# Altium schematic symbol library MACHXO3_STARTER KIT_22SEP14_Library.SchLib: 38 symbols
Pins are listed as number, name and electrical type; pins without a type are passive.

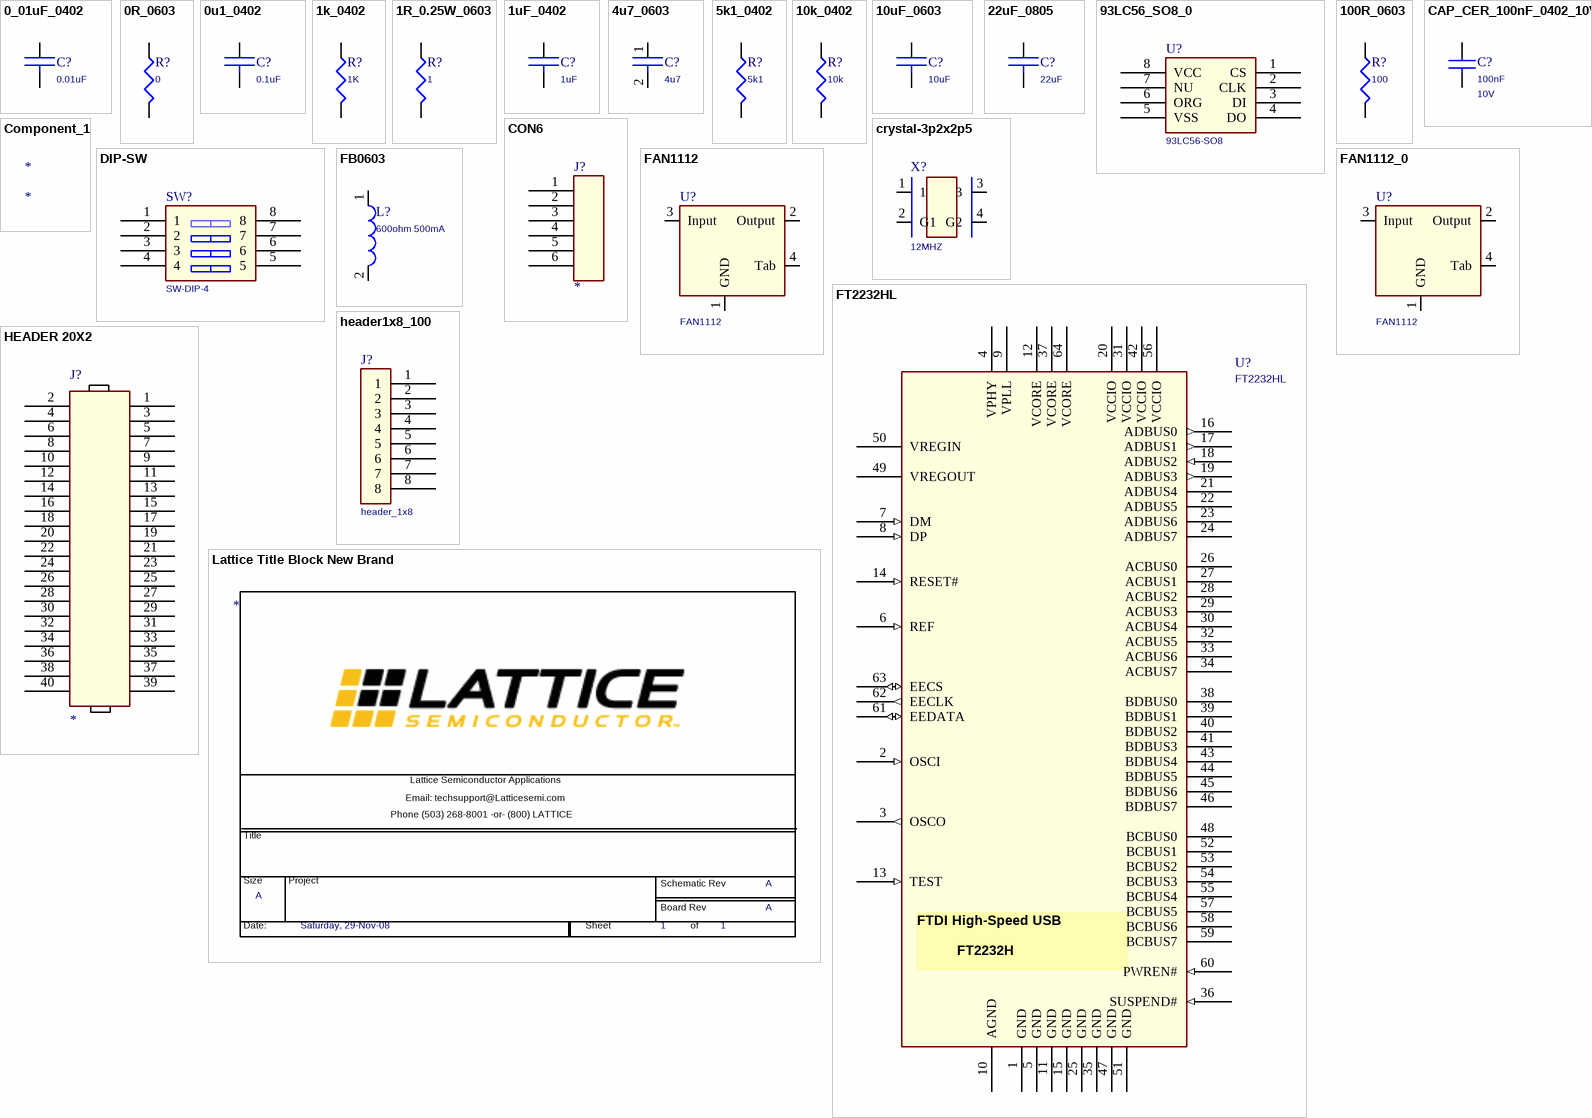
[diagram p0: symbols 0_01uF_0402 to Lattice Title Block New Brand]

## 0_01uF_0402
designator C?, comment 0.01uF
CAP CERAMIC 10nF 16V 5% X7R 0402; Manufacturer Part Number: C0402C103J4RACTU; Manufacturer: Kemet; Class: Discrete; Digikey P/N: 399-1039-1-ND
footprint cc0402
pins: 1, 2

## 0R_0603
designator R?, comment 0
Res 1/10W 0.0 Ohm 5% 0603; Manufacturer Part Number: RC0603JR-070RL; Manufacturer: Yageo; Class: Discrete; Digikey P/N: 311-0.0GRTR-ND
footprint cr0603
pins: 1, 2

## 0u1_0402
designator C?, comment 0.1uF
CAP CERAMIC 0.1UF 16V X7R 0402; Manufacturer Part Number: C0402C104K4RACTU; Manufacturer: Kemet; Class: Discrete; Digikey P/N: 399-3521-2-ND
footprint cc0402
pins: 1, 2

## 1k_0402
designator R?, comment 1K
Res 1/16W 1.0K 1% 0402; Manufacturer: Yageo; Manufacturer Part Number: RC0402FR-071KL; Class: Discrete; Digikey P/N: 311-1.00KLRCT-ND
footprint cr0402
pins: 1 (power), 2 (power)

## 1R_0.25W_0603
designator R?, comment 1
RES 1.0 OHM .25W 5% 0603 SMD; Manufacturer Part Number: CRCW06031R00JNEAHP; Manufacturer: Vishay/Dale; Class: Discrete; Digikey P/N: 541-1.0SACT-ND
footprint cr0603
pins: 1, 2

## 1uF_0402
designator C?, comment 1uF
CAP CERAMIC 1uF 6.3V X5R 0402; Manufacturer Part Number: C0402C105K9PACTU; Manufacturer: Kemet; Class: Discrete; Digikey P/N: 399-4873-1-ND
footprint cc0402
pins: 1, 2

## 4u7_0603
designator C?, comment 4u7
Cap Cer 4.7uF 6.3V 10% X5R 0603; Manufacturer: Panasonic; Part Number: 102033; Manufacturer Part Number: ECJ-1VB0J475K; Class: Discrete; Tolerance: 5%; Digikey SN: PCC2006TR-ND; Voltage: 6.3V
footprint cc0603
pins: 1, 2

## 5k1_0402
designator R?, comment 5k1
Res 1/16W 5.1K 1% 0402; Manufacturer: Yageo; Manufacturer Part Number: RC0402FR-075K1L; Class: Discrete; Digikey P/N: 311-5.10KLRTR-ND
footprint cr0402
pins: 1, 2

## 10k_0402
designator R?, comment 10k
Res 1/16W 10.0K 1% 0402; Manufacturer Part Number: RC0402FR-0710KL; Manufacturer: Yageo; Class: Discrete; Digikey P/N: 311-10.0KLRTR-ND
footprint cr0402
pins: 1, 2

## 10uF_0603
designator C?, comment 10uF
CAP CECAP CER 10UF 10V X5R 20% 0603; Manufacturer Part Number: LMK107BJ106MALTD; Manufacturer: Taiyo Yuden; Class: Discrete; Digikey P/N: 587-2562-1-ND
footprint cc0603
pins: 1, 2

## 22uF_0805
designator C?, comment 22uF
CAP CERAMIC 22uF 10V X5R 0805; Manufacturer Part Number: LMK212BJ226MG-T; Manufacturer: Taiyo Yuden; Class: Discrete; Digikey P/N: 587-1958-1-ND
footprint cc0805
pins: 1, 2

## 93LC56_SO8_0
designator U?, comment 93LC56-SO8
IC 93LC56 EEPROM; Manufacturer Part Number: 93LC56C-I/SN; Manufacturer: Microchip; Class: IC; Digikey P/N: 93LC56C-I/SN-ND
footprint so8_50_244
pins: 1 CS, 2 CLK, 3 DI, 4 DO, 5 VSS (power), 6 ORG, 7 NU, 8 VCC (power)

## 100R_0603
designator R?, comment 100
RES 100 OHM 1/10W 1% 0603 SMD; Manufacturer: Yageo; Manufacturer Part Number: RC0603FR-07100RL; Class: Discrete; Digikey P/N: 311-100HRCT-ND
footprint cr0603
pins: 1, 2

## CAP_CER_100nF_0402_10V
designator C?, comment 100nF  Voltage: 10V
CAP CER 100nf 10V 10% X5R 0402; Unit Price (USD): 0.1; MFG: Murata; MFG P/N: GRM155R61A104KA01D; Total Area(sq-mm): 0.5; Width(mm): 0.5; Length(mm): 1
footprint C0402
pins: 1, 2

## Component_1
designator *

## CON6
designator J?
pins: 1, 2, 3, 4, 5, 6

## crystal-3p2x2p5
designator X?, comment 12MHZ
12Mhz Crystal; Manufacturer: TXC; Manufacturer Part Number: 7M-12.000MAAJ-T; Class: IC; Digikey P/N: 887-1121-2-ND
footprint crystal_4p_3p2x2p5
pins: 1, 2 G1, 3, 4 G2

## DIP-SW
designator SW?, comment SW-DIP-4
pins: 1, 2, 3, 4, 5, 6, 7, 8

## FAN1112
designator U?
IC REG LDO 1A 1.2V SOT-223; Manufacturer Part Number: FAN1112SX; Manufacturer: Fairchild Semi; Digikey P/N: FAN1112SXCT-ND; Class: IC
footprint sot223_4p
pins: 1 GND (power), 2 Output (power), 3 Input (power), 4 Tab (io)

## FAN1112_0
designator U?, comment FAN1112
IC REG LDO 1A 1.2V SOT-223; Manufacturer Part Number: FAN1112SX; Manufacturer: Fairchild Semi; Digikey P/N: FAN1112SXCT-ND; Class: IC
footprint sot223_4p
pins: 1 GND (power), 2 Output (power), 3 Input (power), 4 Tab (power)

## FB0603
designator L?, comment 600ohm 500mA
Ferrite Bead 600ohm@100MHz 500mA 0603; Manufacturer Part Number: BLM18AG601SN1D; Manufacturer: Murata; Class: Discrete; Digikey P/N: 490-1014-1-ND
footprint FB0603
pins: 1, 2

## FT2232HL
designator U?
USB to UART / FIFO; Manufacturer: FTDI; Class: IC; Digikey P/N: 768-1024-1-ND; Manufacturer Part Number: FT2232HL
footprint tqfp64_0p5_12p2x12p2_h1p6
pins: 1 GND (power), 2 OSCI (in), 3 OSCO (out), 4 VPHY (power), 5 GND (power), 6 REF (in), 7 DM (in), 8 DP (in), 9 VPLL (power), 10 AGND (power), 11 GND (power), 12 VCORE (power), 13 TEST (in), 14 RESET# (in), 15 GND (power), 16 ADBUS0 (out), 17 ADBUS1 (out), 18 ADBUS2 (in), 19 ADBUS3 (out), 20 VCCIO (power), 21 ADBUS4, 22 ADBUS5, 23 ADBUS6, 24 ADBUS7, 25 GND (power), 26 ACBUS0, 27 ACBUS1, 28 ACBUS2, 29 ACBUS3, 30 ACBUS4, 31 VCCIO (power), 32 ACBUS5, 33 ACBUS6, 34 ACBUS7, 35 GND (power), 36 SUSPEND# (in), 37 VCORE (power), 38 BDBUS0, 39 BDBUS1, 40 BDBUS2, 41 BDBUS3, 42 VCCIO (power), 43 BDBUS4, 44 BDBUS5, 45 BDBUS6, 46 BDBUS7, 47 GND (power), 48 BCBUS0, 49 VREGOUT (power), 50 VREGIN (power), 51 GND (power), 52 BCBUS1, 53 BCBUS2, 54 BCBUS3, 55 BCBUS4, 56 VCCIO (power), 57 BCBUS5, 58 BCBUS6, 59 BCBUS7, 60 PWREN# (in), 61 EEDATA (io), 62 EECLK (out), 63 EECS (io), 64 VCORE (power)
text: FTDI High-Speed USB / FT2232H

## header1x8_100
designator J?, comment header_1x8
Header 1x8; Manufacturer: Molex; Class: IO; Manufacturer Part Number: 22-28-4081; Digikey P/N: WM6608-ND
footprint hdr_amp_87220_8_1x8_100
pins: 1, 2, 3, 4, 5, 6, 7, 8

## HEADER 20X2
designator J?
pins: 1, 2, 3, 4, 5, 6, 7, 8, 9, 10, 11, 12, 13, 14, 15, 16, 17, 18, 19, 20, 21, 22, 23, 24, 25, 26, 27, 28, 29, 30, 31, 32, 33, 34, 35, 36, 37, 38, 39, 40

## Lattice Title Block New Brand
designator *  Page Number: 1  RevCode: A  Date:: Saturday, 29-Nov-08  (graphical)
Page Count: 1; Page Size: A; Board Rev: A
text: Lattice Semiconductor Applications; Email: techsupport@Latticesemi.com; Phone (503) 268-8001 -or- (800) LATTICE; Title; Size; Project; Schematic Rev; Board Rev; Date:; Sheet; of

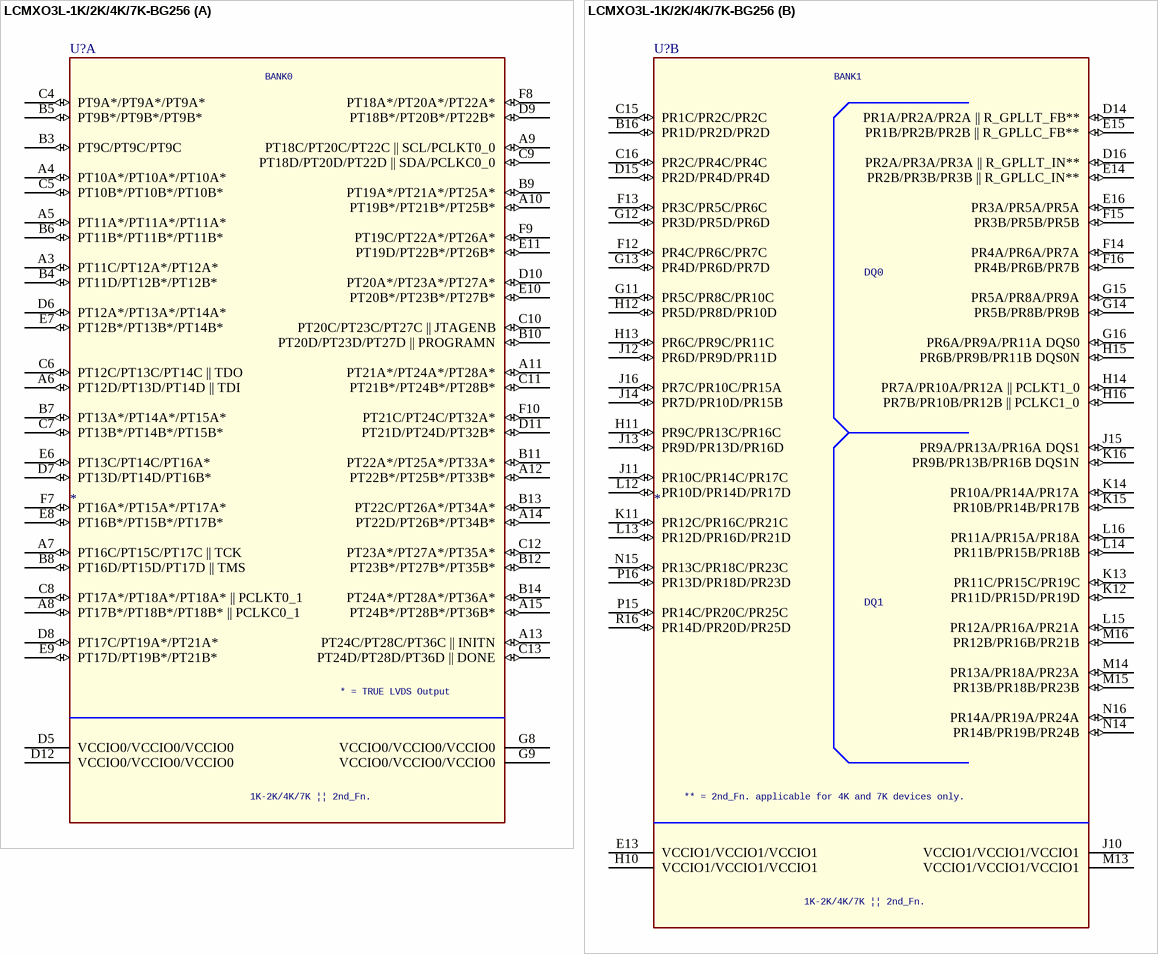
[diagram p1: symbol LCMXO3L-1K/2K/4K/7K-BG256]

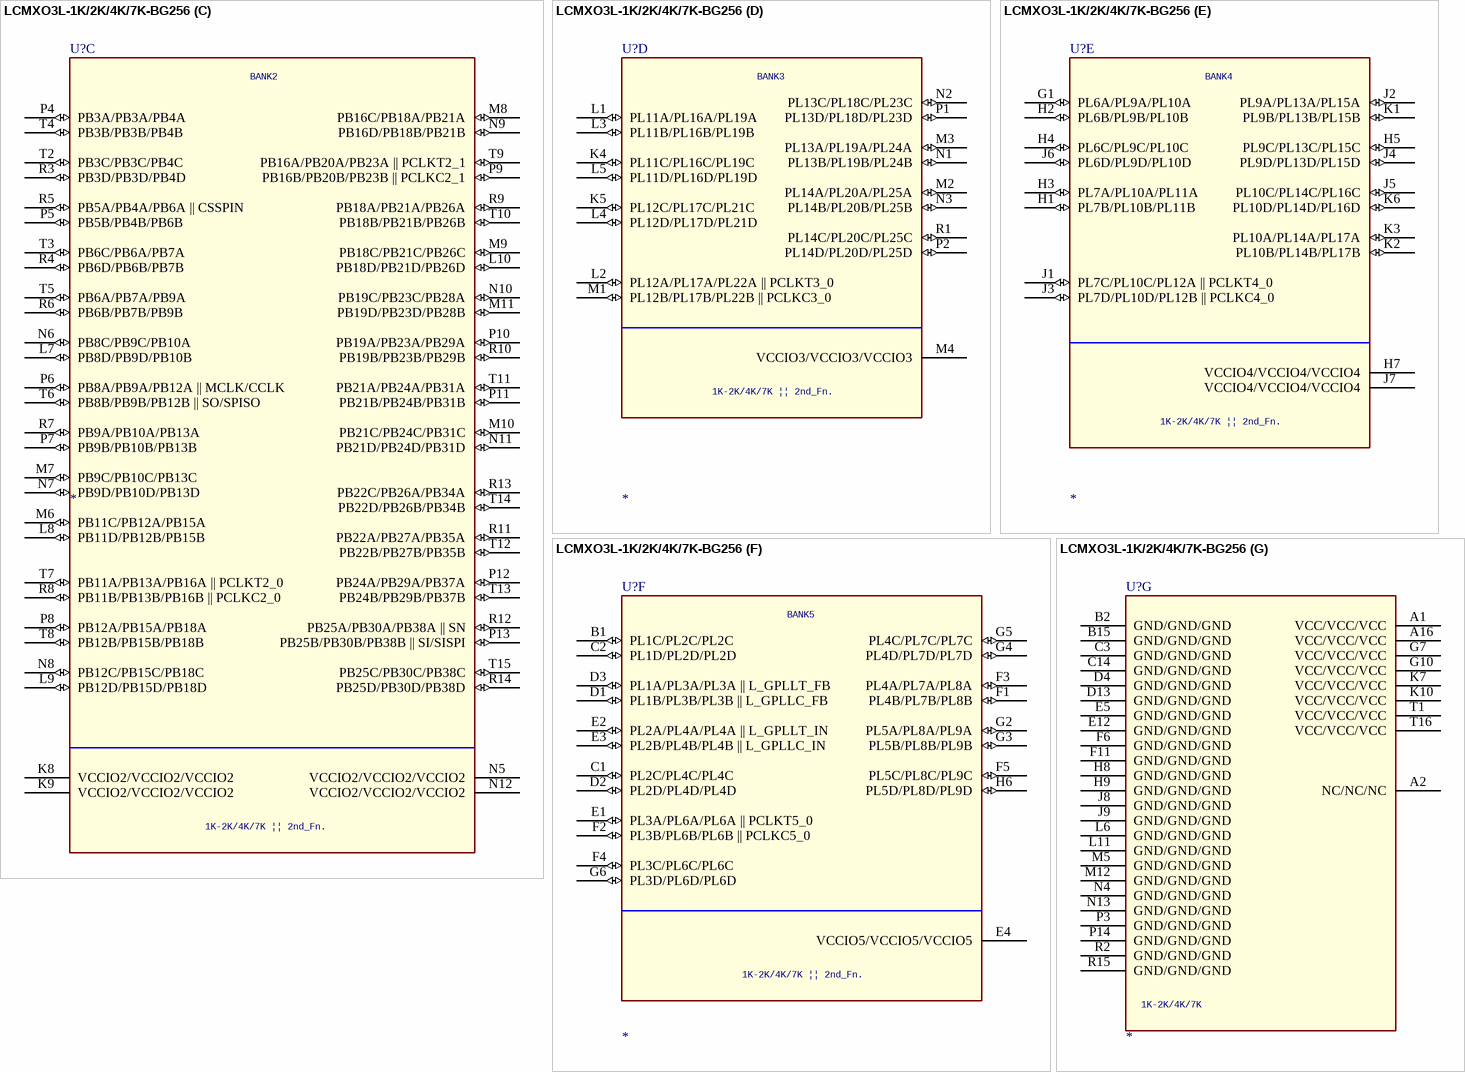
[diagram p2: symbol LCMXO3L-1K/2K/4K/7K-BG256]

## LCMXO3L-1K/2K/4K/7K-BG256
designator U?
SPLIT_INST: TRUE; SWAP_INFO: (S1+S2+S3+S4+S5+S6+S7)
part A pins: A3 PT11C/PT12A*/PT12A* (io), A4 PT10A*/PT10A*/PT10A* (io), A5 PT11A*/PT11A*/PT11A* (io), A6 PT12D/PT13D/PT14D || TDI (io), A7 PT16C/PT15C/PT17C || TCK (io), A8 PT17B*/PT18B*/PT18B* || PCLKC0_1 (io), A9 PT18C/PT20C/PT22C || SCL/PCLKT0_0 (io), A10 PT19B*/PT21B*/PT25B* (io), A11 PT21A*/PT24A*/PT28A* (io), A12 PT22B*/PT25B*/PT33B* (io), A13 PT24C/PT28C/PT36C || INITN (io), A14 PT22D/PT26B*/PT34B* (io), A15 PT24B*/PT28B*/PT36B* (io), B3 PT9C/PT9C/PT9C (io), B4 PT11D/PT12B*/PT12B* (io), B5 PT9B*/PT9B*/PT9B* (io), B6 PT11B*/PT11B*/PT11B* (io), B7 PT13A*/PT14A*/PT15A* (io), B8 PT16D/PT15D/PT17D || TMS (io), B9 PT19A*/PT21A*/PT25A* (io), B10 PT20D/PT23D/PT27D || PROGRAMN (io), B11 PT22A*/PT25A*/PT33A* (io), B12 PT23B*/PT27B*/PT35B* (io), B13 PT22C/PT26A*/PT34A* (io), B14 PT24A*/PT28A*/PT36A* (io), C4 PT9A*/PT9A*/PT9A* (io), C5 PT10B*/PT10B*/PT10B* (io), C6 PT12C/PT13C/PT14C || TDO (io), C7 PT13B*/PT14B*/PT15B* (io), C8 PT17A*/PT18A*/PT18A* || PCLKT0_1 (io), C9 PT18D/PT20D/PT22D || SDA/PCLKC0_0 (io), C10 PT20C/PT23C/PT27C || JTAGENB (io), C11 PT21B*/PT24B*/PT28B* (io), C12 PT23A*/PT27A*/PT35A* (io), C13 PT24D/PT28D/PT36D || DONE (io), D5 VCCIO0/VCCIO0/VCCIO0 (power), D6 PT12A*/PT13A*/PT14A* (io), D7 PT13D/PT14D/PT16B* (io), D8 PT17C/PT19A*/PT21A* (io), D9 PT18B*/PT20B*/PT22B* (io), D10 PT20A*/PT23A*/PT27A* (io), D11 PT21D/PT24D/PT32B* (io), D12 VCCIO0/VCCIO0/VCCIO0 (power), E6 PT13C/PT14C/PT16A* (io), E7 PT12B*/PT13B*/PT14B* (io), E8 PT16B*/PT15B*/PT17B* (io), E9 PT17D/PT19B*/PT21B* (io), E10 PT20B*/PT23B*/PT27B* (io), E11 PT19D/PT22B*/PT26B* (io), F7 PT16A*/PT15A*/PT17A* (io), F8 PT18A*/PT20A*/PT22A* (io), F9 PT19C/PT22A*/PT26A* (io), F10 PT21C/PT24C/PT32A* (io), G8 VCCIO0/VCCIO0/VCCIO0 (power), G9 VCCIO0/VCCIO0/VCCIO0 (power)
part B pins: B16 PR1D/PR2D/PR2D (io), C15 PR1C/PR2C/PR2C (io), C16 PR2C/PR4C/PR4C (io), D14 PR1A/PR2A/PR2A || R_GPLLT_FB** (io), D15 PR2D/PR4D/PR4D (io), D16 PR2A/PR3A/PR3A || R_GPLLT_IN** (io), E13 VCCIO1/VCCIO1/VCCIO1 (power), E14 PR2B/PR3B/PR3B || R_GPLLC_IN** (io), E15 PR1B/PR2B/PR2B || R_GPLLC_FB** (io), E16 PR3A/PR5A/PR5A (io), F12 PR4C/PR6C/PR7C (io), F13 PR3C/PR5C/PR6C (io), F14 PR4A/PR6A/PR7A (io), F15 PR3B/PR5B/PR5B (io), F16 PR4B/PR6B/PR7B (io), G11 PR5C/PR8C/PR10C (io), G12 PR3D/PR5D/PR6D (io), G13 PR4D/PR6D/PR7D (io), G14 PR5B/PR8B/PR9B (io), G15 PR5A/PR8A/PR9A (io), G16 PR6A/PR9A/PR11A DQS0 (io), H10 VCCIO1/VCCIO1/VCCIO1 (power), H11 PR9C/PR13C/PR16C (io), H12 PR5D/PR8D/PR10D (io), H13 PR6C/PR9C/PR11C (io), H14 PR7A/PR10A/PR12A || PCLKT1_0 (io), H15 PR6B/PR9B/PR11B DQS0N (io), H16 PR7B/PR10B/PR12B || PCLKC1_0 (io), J10 VCCIO1/VCCIO1/VCCIO1 (power), J11 PR10C/PR14C/PR17C (io), J12 PR6D/PR9D/PR11D (io), J13 PR9D/PR13D/PR16D (io), J14 PR7D/PR10D/PR15B (io), J15 PR9A/PR13A/PR16A DQS1 (io), J16 PR7C/PR10C/PR15A (io), K11 PR12C/PR16C/PR21C (io), K12 PR11D/PR15D/PR19D (io), K13 PR11C/PR15C/PR19C (io), K14 PR10A/PR14A/PR17A (io), K15 PR10B/PR14B/PR17B (io), K16 PR9B/PR13B/PR16B DQS1N (io), L12 PR10D/PR14D/PR17D (io), L13 PR12D/PR16D/PR21D (io), L14 PR11B/PR15B/PR18B (io), L15 PR12A/PR16A/PR21A (io), L16 PR11A/PR15A/PR18A (io), M13 VCCIO1/VCCIO1/VCCIO1 (power), M14 PR13A/PR18A/PR23A (io), M15 PR13B/PR18B/PR23B (io), M16 PR12B/PR16B/PR21B (io), N14 PR14B/PR19B/PR24B (io), N15 PR13C/PR18C/PR23C (io), N16 PR14A/PR19A/PR24A (io), P15 PR14C/PR20C/PR25C (io), P16 PR13D/PR18D/PR23D (io), R16 PR14D/PR20D/PR25D (io)
part C pins: K8 VCCIO2/VCCIO2/VCCIO2 (power), K9 VCCIO2/VCCIO2/VCCIO2 (power), L7 PB8D/PB9D/PB10B (io), L8 PB11D/PB12B/PB15B (io), L9 PB12D/PB15D/PB18D (io), L10 PB18D/PB21D/PB26D (io), M6 PB11C/PB12A/PB15A (io), M7 PB9C/PB10C/PB13C (io), M8 PB16C/PB18A/PB21A (io), M9 PB18C/PB21C/PB26C (io), M10 PB21C/PB24C/PB31C (io), M11 PB19D/PB23D/PB28B (io), N5 VCCIO2/VCCIO2/VCCIO2 (power), N6 PB8C/PB9C/PB10A (io), N7 PB9D/PB10D/PB13D (io), N8 PB12C/PB15C/PB18C (io), N9 PB16D/PB18B/PB21B (io), N10 PB19C/PB23C/PB28A (io), N11 PB21D/PB24D/PB31D (io), N12 VCCIO2/VCCIO2/VCCIO2 (power), P4 PB3A/PB3A/PB4A (io), P5 PB5B/PB4B/PB6B (io), P6 PB8A/PB9A/PB12A || MCLK/CCLK (io), P7 PB9B/PB10B/PB13B (io), P8 PB12A/PB15A/PB18A (io), P9 PB16B/PB20B/PB23B || PCLKC2_1 (io), P10 PB19A/PB23A/PB29A (io), P11 PB21B/PB24B/PB31B (io), P12 PB24A/PB29A/PB37A (io), P13 PB25B/PB30B/PB38B || SI/SISPI (io), R3 PB3D/PB3D/PB4D (io), R4 PB6D/PB6B/PB7B (io), R5 PB5A/PB4A/PB6A || CSSPIN (io), R6 PB6B/PB7B/PB9B (io), R7 PB9A/PB10A/PB13A (io), R8 PB11B/PB13B/PB16B || PCLKC2_0 (io), R9 PB18A/PB21A/PB26A (io), R10 PB19B/PB23B/PB29B (io), R11 PB22A/PB27A/PB35A (io), R12 PB25A/PB30A/PB38A || SN (io), R13 PB22C/PB26A/PB34A (io), R14 PB25D/PB30D/PB38D (io), T2 PB3C/PB3C/PB4C (io), T3 PB6C/PB6A/PB7A (io), T4 PB3B/PB3B/PB4B (io), T5 PB6A/PB7A/PB9A (io), T6 PB8B/PB9B/PB12B || SO/SPISO (io), T7 PB11A/PB13A/PB16A || PCLKT2_0 (io), T8 PB12B/PB15B/PB18B (io), T9 PB16A/PB20A/PB23A || PCLKT2_1 (io), T10 PB18B/PB21B/PB26B (io), T11 PB21A/PB24A/PB31A (io), T12 PB22B/PB27B/PB35B (io), T13 PB24B/PB29B/PB37B (io), T14 PB22D/PB26B/PB34B (io), T15 PB25C/PB30C/PB38C (io)
part D pins: K4 PL11C/PL16C/PL19C (io), K5 PL12C/PL17C/PL21C (io), L1 PL11A/PL16A/PL19A (io), L2 PL12A/PL17A/PL22A || PCLKT3_0 (io), L3 PL11B/PL16B/PL19B (io), L4 PL12D/PL17D/PL21D (io), L5 PL11D/PL16D/PL19D (io), M1 PL12B/PL17B/PL22B || PCLKC3_0 (io), M2 PL14A/PL20A/PL25A (io), M3 PL13A/PL19A/PL24A (io), M4 VCCIO3/VCCIO3/VCCIO3 (power), N1 PL13B/PL19B/PL24B (io), N2 PL13C/PL18C/PL23C (io), N3 PL14B/PL20B/PL25B (io), P1 PL13D/PL18D/PL23D (io), P2 PL14D/PL20D/PL25D (io), R1 PL14C/PL20C/PL25C (io)
part E pins: G1 PL6A/PL9A/PL10A (io), H1 PL7B/PL10B/PL11B (io), H2 PL6B/PL9B/PL10B (io), H3 PL7A/PL10A/PL11A (io), H4 PL6C/PL9C/PL10C (io), H5 PL9C/PL13C/PL15C (io), H7 VCCIO4/VCCIO4/VCCIO4 (power), J1 PL7C/PL10C/PL12A || PCLKT4_0 (io), J2 PL9A/PL13A/PL15A (io), J3 PL7D/PL10D/PL12B || PCLKC4_0 (io), J4 PL9D/PL13D/PL15D (io), J5 PL10C/PL14C/PL16C (io), J6 PL6D/PL9D/PL10D (io), J7 VCCIO4/VCCIO4/VCCIO4 (power), K1 PL9B/PL13B/PL15B (io), K2 PL10B/PL14B/PL17B (io), K3 PL10A/PL14A/PL17A (io), K6 PL10D/PL14D/PL16D (io)
part F pins: B1 PL1C/PL2C/PL2C (io), C1 PL2C/PL4C/PL4C (io), C2 PL1D/PL2D/PL2D (io), D1 PL1B/PL3B/PL3B || L_GPLLC_FB (io), D2 PL2D/PL4D/PL4D (io), D3 PL1A/PL3A/PL3A || L_GPLLT_FB (io), E1 PL3A/PL6A/PL6A || PCLKT5_0 (io), E2 PL2A/PL4A/PL4A || L_GPLLT_IN (io), E3 PL2B/PL4B/PL4B || L_GPLLC_IN (io), E4 VCCIO5/VCCIO5/VCCIO5 (power), F1 PL4B/PL7B/PL8B (io), F2 PL3B/PL6B/PL6B || PCLKC5_0 (io), F3 PL4A/PL7A/PL8A (io), F4 PL3C/PL6C/PL6C (io), F5 PL5C/PL8C/PL9C (io), G2 PL5A/PL8A/PL9A (io), G3 PL5B/PL8B/PL9B (io), G4 PL4D/PL7D/PL7D (io), G5 PL4C/PL7C/PL7C (io), G6 PL3D/PL6D/PL6D (io), H6 PL5D/PL8D/PL9D (io)
part G pins: A1 VCC/VCC/VCC (power), A2 NC/NC/NC, A16 VCC/VCC/VCC (power), B2 GND/GND/GND (power), B15 GND/GND/GND (power), C3 GND/GND/GND (power), C14 GND/GND/GND (power), D4 GND/GND/GND (power), D13 GND/GND/GND (power), E5 GND/GND/GND (power), E12 GND/GND/GND (power), F6 GND/GND/GND (power), F11 GND/GND/GND (power), G7 VCC/VCC/VCC (power), G10 VCC/VCC/VCC (power), H8 GND/GND/GND (power), H9 GND/GND/GND (power), J8 GND/GND/GND (power), J9 GND/GND/GND (power), K7 VCC/VCC/VCC (power), K10 VCC/VCC/VCC (power), L6 GND/GND/GND (power), L11 GND/GND/GND (power), M5 GND/GND/GND (power), M12 GND/GND/GND (power), N4 GND/GND/GND (power), N13 GND/GND/GND (power), P3 GND/GND/GND (power), P14 GND/GND/GND (power), R2 GND/GND/GND (power), R15 GND/GND/GND (power), T1 VCC/VCC/VCC (power), T16 VCC/VCC/VCC (power)
part A text: BANK0; * = TRUE LVDS Output; 1K-2K/4K/7K || 2nd_Fn.
part B text: BANK1; DQ0; DQ1; ** = 2nd_Fn. applicable for 4K and 7K devices only.; 1K-2K/4K/7K || 2nd_Fn.
part C text: BANK2; 1K-2K/4K/7K || 2nd_Fn.
part D text: BANK3; 1K-2K/4K/7K || 2nd_Fn.
part E text: BANK4; 1K-2K/4K/7K || 2nd_Fn.
part F text: BANK5; 1K-2K/4K/7K || 2nd_Fn.
part G text: 1K-2K/4K/7K

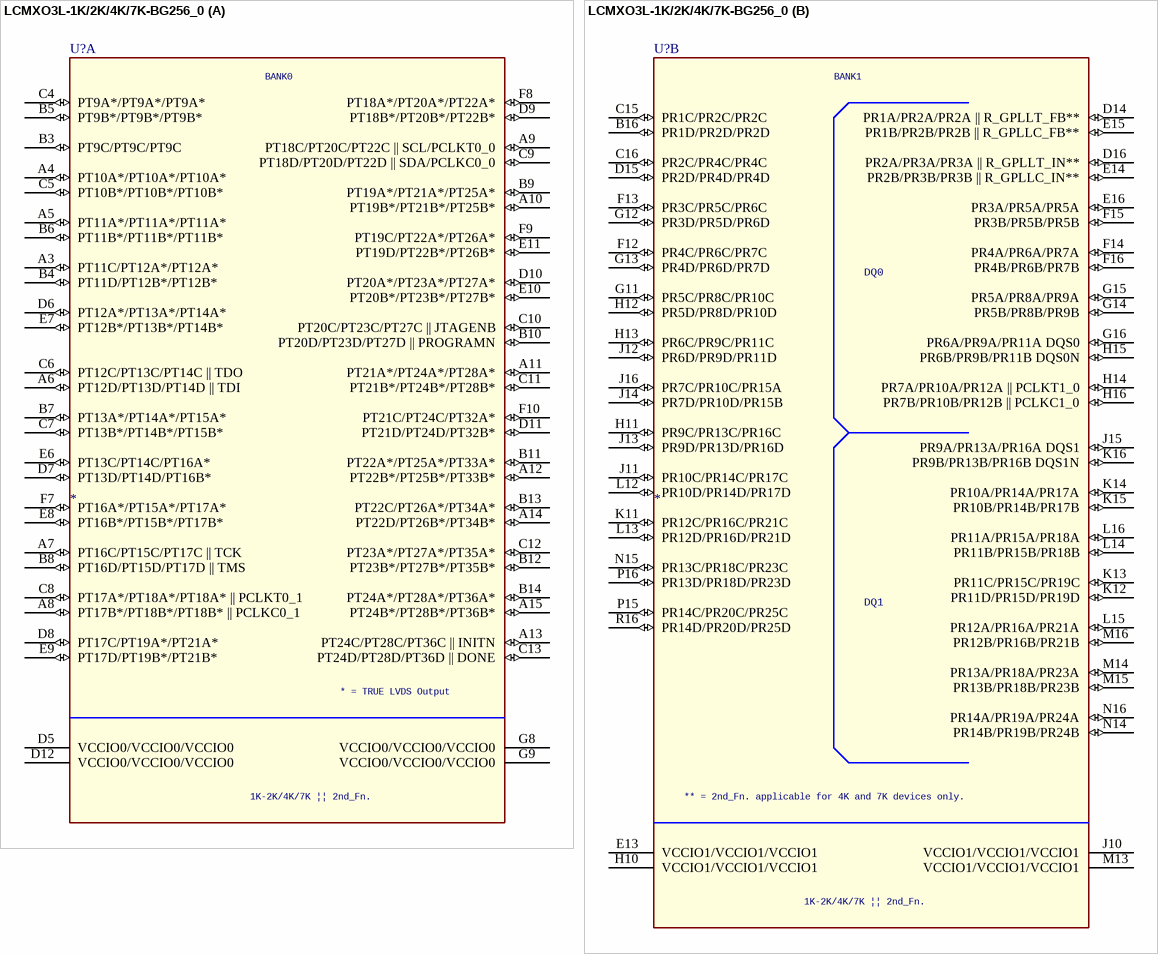
[diagram p3: symbol LCMXO3L-1K/2K/4K/7K-BG256_0]

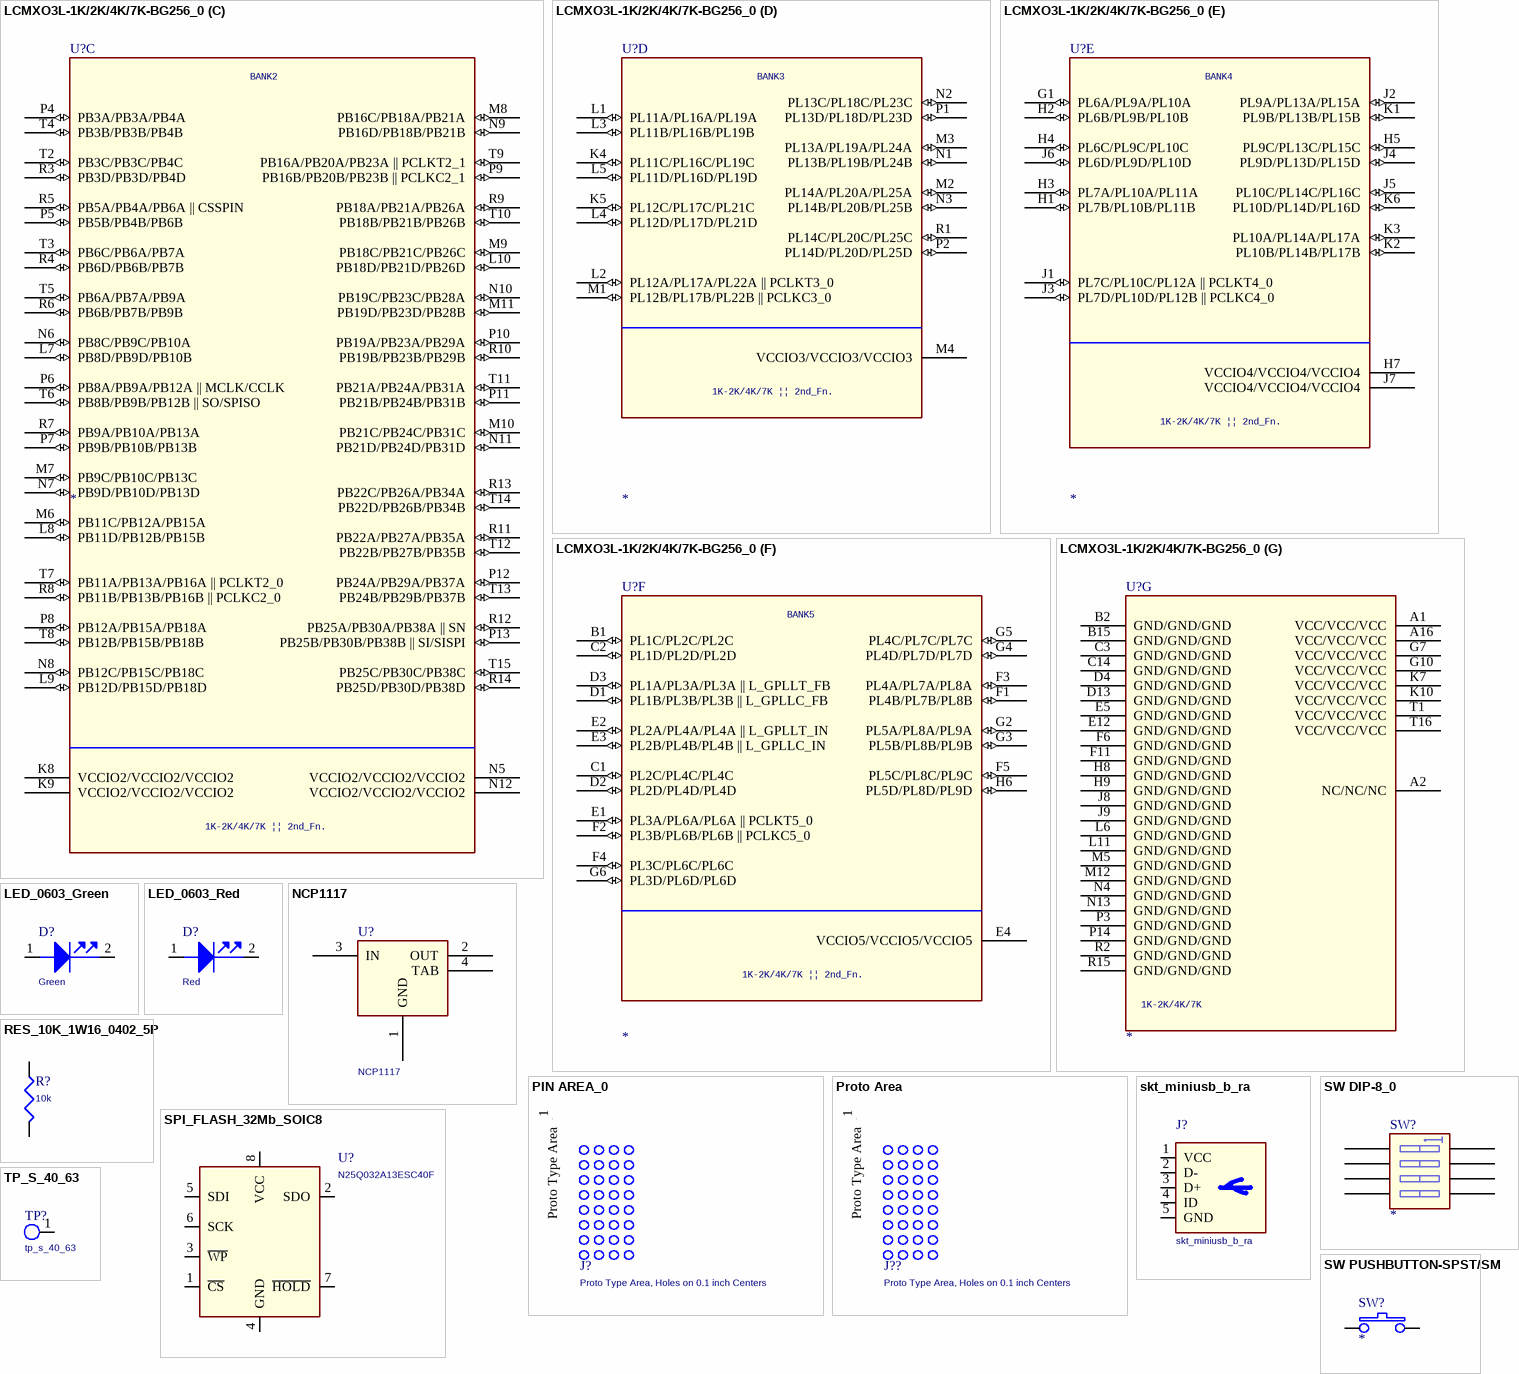
[diagram p4: symbols LCMXO3L-1K/2K/4K/7K-BG256_0 to TP_S_40_63]

## LCMXO3L-1K/2K/4K/7K-BG256_0
designator U?
SWAP_INFO: (S1+S2+S3+S4+S5+S6+S7); SPLIT_INST: TRUE
part A pins: A3 PT11C/PT12A*/PT12A* (io), A4 PT10A*/PT10A*/PT10A* (io), A5 PT11A*/PT11A*/PT11A* (io), A6 PT12D/PT13D/PT14D || TDI (io), A7 PT16C/PT15C/PT17C || TCK (io), A8 PT17B*/PT18B*/PT18B* || PCLKC0_1 (io), A9 PT18C/PT20C/PT22C || SCL/PCLKT0_0 (io), A10 PT19B*/PT21B*/PT25B* (io), A11 PT21A*/PT24A*/PT28A* (io), A12 PT22B*/PT25B*/PT33B* (io), A13 PT24C/PT28C/PT36C || INITN (io), A14 PT22D/PT26B*/PT34B* (io), A15 PT24B*/PT28B*/PT36B* (io), B3 PT9C/PT9C/PT9C (io), B4 PT11D/PT12B*/PT12B* (io), B5 PT9B*/PT9B*/PT9B* (io), B6 PT11B*/PT11B*/PT11B* (io), B7 PT13A*/PT14A*/PT15A* (io), B8 PT16D/PT15D/PT17D || TMS (io), B9 PT19A*/PT21A*/PT25A* (io), B10 PT20D/PT23D/PT27D || PROGRAMN (io), B11 PT22A*/PT25A*/PT33A* (io), B12 PT23B*/PT27B*/PT35B* (io), B13 PT22C/PT26A*/PT34A* (io), B14 PT24A*/PT28A*/PT36A* (io), C4 PT9A*/PT9A*/PT9A* (io), C5 PT10B*/PT10B*/PT10B* (io), C6 PT12C/PT13C/PT14C || TDO (io), C7 PT13B*/PT14B*/PT15B* (io), C8 PT17A*/PT18A*/PT18A* || PCLKT0_1 (io), C9 PT18D/PT20D/PT22D || SDA/PCLKC0_0 (io), C10 PT20C/PT23C/PT27C || JTAGENB (io), C11 PT21B*/PT24B*/PT28B* (io), C12 PT23A*/PT27A*/PT35A* (io), C13 PT24D/PT28D/PT36D || DONE (io), D5 VCCIO0/VCCIO0/VCCIO0 (power), D6 PT12A*/PT13A*/PT14A* (io), D7 PT13D/PT14D/PT16B* (io), D8 PT17C/PT19A*/PT21A* (io), D9 PT18B*/PT20B*/PT22B* (io), D10 PT20A*/PT23A*/PT27A* (io), D11 PT21D/PT24D/PT32B* (io), D12 VCCIO0/VCCIO0/VCCIO0 (power), E6 PT13C/PT14C/PT16A* (io), E7 PT12B*/PT13B*/PT14B* (io), E8 PT16B*/PT15B*/PT17B* (io), E9 PT17D/PT19B*/PT21B* (io), E10 PT20B*/PT23B*/PT27B* (io), E11 PT19D/PT22B*/PT26B* (io), F7 PT16A*/PT15A*/PT17A* (io), F8 PT18A*/PT20A*/PT22A* (io), F9 PT19C/PT22A*/PT26A* (io), F10 PT21C/PT24C/PT32A* (io), G8 VCCIO0/VCCIO0/VCCIO0 (power), G9 VCCIO0/VCCIO0/VCCIO0 (power)
part B pins: B16 PR1D/PR2D/PR2D (io), C15 PR1C/PR2C/PR2C (io), C16 PR2C/PR4C/PR4C (io), D14 PR1A/PR2A/PR2A || R_GPLLT_FB** (io), D15 PR2D/PR4D/PR4D (io), D16 PR2A/PR3A/PR3A || R_GPLLT_IN** (io), E13 VCCIO1/VCCIO1/VCCIO1 (power), E14 PR2B/PR3B/PR3B || R_GPLLC_IN** (io), E15 PR1B/PR2B/PR2B || R_GPLLC_FB** (io), E16 PR3A/PR5A/PR5A (io), F12 PR4C/PR6C/PR7C (io), F13 PR3C/PR5C/PR6C (io), F14 PR4A/PR6A/PR7A (io), F15 PR3B/PR5B/PR5B (io), F16 PR4B/PR6B/PR7B (io), G11 PR5C/PR8C/PR10C (io), G12 PR3D/PR5D/PR6D (io), G13 PR4D/PR6D/PR7D (io), G14 PR5B/PR8B/PR9B (io), G15 PR5A/PR8A/PR9A (io), G16 PR6A/PR9A/PR11A DQS0 (io), H10 VCCIO1/VCCIO1/VCCIO1 (power), H11 PR9C/PR13C/PR16C (io), H12 PR5D/PR8D/PR10D (io), H13 PR6C/PR9C/PR11C (io), H14 PR7A/PR10A/PR12A || PCLKT1_0 (io), H15 PR6B/PR9B/PR11B DQS0N (io), H16 PR7B/PR10B/PR12B || PCLKC1_0 (io), J10 VCCIO1/VCCIO1/VCCIO1 (power), J11 PR10C/PR14C/PR17C (io), J12 PR6D/PR9D/PR11D (io), J13 PR9D/PR13D/PR16D (io), J14 PR7D/PR10D/PR15B (io), J15 PR9A/PR13A/PR16A DQS1 (io), J16 PR7C/PR10C/PR15A (io), K11 PR12C/PR16C/PR21C (io), K12 PR11D/PR15D/PR19D (io), K13 PR11C/PR15C/PR19C (io), K14 PR10A/PR14A/PR17A (io), K15 PR10B/PR14B/PR17B (io), K16 PR9B/PR13B/PR16B DQS1N (io), L12 PR10D/PR14D/PR17D (io), L13 PR12D/PR16D/PR21D (io), L14 PR11B/PR15B/PR18B (io), L15 PR12A/PR16A/PR21A (io), L16 PR11A/PR15A/PR18A (io), M13 VCCIO1/VCCIO1/VCCIO1 (power), M14 PR13A/PR18A/PR23A (io), M15 PR13B/PR18B/PR23B (io), M16 PR12B/PR16B/PR21B (io), N14 PR14B/PR19B/PR24B (io), N15 PR13C/PR18C/PR23C (io), N16 PR14A/PR19A/PR24A (io), P15 PR14C/PR20C/PR25C (io), P16 PR13D/PR18D/PR23D (io), R16 PR14D/PR20D/PR25D (io)
part C pins: K8 VCCIO2/VCCIO2/VCCIO2 (power), K9 VCCIO2/VCCIO2/VCCIO2 (power), L7 PB8D/PB9D/PB10B (io), L8 PB11D/PB12B/PB15B (io), L9 PB12D/PB15D/PB18D (io), L10 PB18D/PB21D/PB26D (io), M6 PB11C/PB12A/PB15A (io), M7 PB9C/PB10C/PB13C (io), M8 PB16C/PB18A/PB21A (io), M9 PB18C/PB21C/PB26C (io), M10 PB21C/PB24C/PB31C (io), M11 PB19D/PB23D/PB28B (io), N5 VCCIO2/VCCIO2/VCCIO2 (power), N6 PB8C/PB9C/PB10A (io), N7 PB9D/PB10D/PB13D (io), N8 PB12C/PB15C/PB18C (io), N9 PB16D/PB18B/PB21B (io), N10 PB19C/PB23C/PB28A (io), N11 PB21D/PB24D/PB31D (io), N12 VCCIO2/VCCIO2/VCCIO2 (power), P4 PB3A/PB3A/PB4A (io), P5 PB5B/PB4B/PB6B (io), P6 PB8A/PB9A/PB12A || MCLK/CCLK (io), P7 PB9B/PB10B/PB13B (io), P8 PB12A/PB15A/PB18A (io), P9 PB16B/PB20B/PB23B || PCLKC2_1 (io), P10 PB19A/PB23A/PB29A (io), P11 PB21B/PB24B/PB31B (io), P12 PB24A/PB29A/PB37A (io), P13 PB25B/PB30B/PB38B || SI/SISPI (io), R3 PB3D/PB3D/PB4D (io), R4 PB6D/PB6B/PB7B (io), R5 PB5A/PB4A/PB6A || CSSPIN (io), R6 PB6B/PB7B/PB9B (io), R7 PB9A/PB10A/PB13A (io), R8 PB11B/PB13B/PB16B || PCLKC2_0 (io), R9 PB18A/PB21A/PB26A (io), R10 PB19B/PB23B/PB29B (io), R11 PB22A/PB27A/PB35A (io), R12 PB25A/PB30A/PB38A || SN (io), R13 PB22C/PB26A/PB34A (io), R14 PB25D/PB30D/PB38D (io), T2 PB3C/PB3C/PB4C (io), T3 PB6C/PB6A/PB7A (io), T4 PB3B/PB3B/PB4B (io), T5 PB6A/PB7A/PB9A (io), T6 PB8B/PB9B/PB12B || SO/SPISO (io), T7 PB11A/PB13A/PB16A || PCLKT2_0 (io), T8 PB12B/PB15B/PB18B (io), T9 PB16A/PB20A/PB23A || PCLKT2_1 (io), T10 PB18B/PB21B/PB26B (io), T11 PB21A/PB24A/PB31A (io), T12 PB22B/PB27B/PB35B (io), T13 PB24B/PB29B/PB37B (io), T14 PB22D/PB26B/PB34B (io), T15 PB25C/PB30C/PB38C (io)
part D pins: K4 PL11C/PL16C/PL19C (io), K5 PL12C/PL17C/PL21C (io), L1 PL11A/PL16A/PL19A (io), L2 PL12A/PL17A/PL22A || PCLKT3_0 (io), L3 PL11B/PL16B/PL19B (io), L4 PL12D/PL17D/PL21D (io), L5 PL11D/PL16D/PL19D (io), M1 PL12B/PL17B/PL22B || PCLKC3_0 (io), M2 PL14A/PL20A/PL25A (io), M3 PL13A/PL19A/PL24A (io), M4 VCCIO3/VCCIO3/VCCIO3 (power), N1 PL13B/PL19B/PL24B (io), N2 PL13C/PL18C/PL23C (io), N3 PL14B/PL20B/PL25B (io), P1 PL13D/PL18D/PL23D (io), P2 PL14D/PL20D/PL25D (io), R1 PL14C/PL20C/PL25C (io)
part E pins: G1 PL6A/PL9A/PL10A (io), H1 PL7B/PL10B/PL11B (io), H2 PL6B/PL9B/PL10B (io), H3 PL7A/PL10A/PL11A (io), H4 PL6C/PL9C/PL10C (io), H5 PL9C/PL13C/PL15C (io), H7 VCCIO4/VCCIO4/VCCIO4 (power), J1 PL7C/PL10C/PL12A || PCLKT4_0 (io), J2 PL9A/PL13A/PL15A (io), J3 PL7D/PL10D/PL12B || PCLKC4_0 (io), J4 PL9D/PL13D/PL15D (io), J5 PL10C/PL14C/PL16C (io), J6 PL6D/PL9D/PL10D (io), J7 VCCIO4/VCCIO4/VCCIO4 (power), K1 PL9B/PL13B/PL15B (io), K2 PL10B/PL14B/PL17B (io), K3 PL10A/PL14A/PL17A (io), K6 PL10D/PL14D/PL16D (io)
part F pins: B1 PL1C/PL2C/PL2C (io), C1 PL2C/PL4C/PL4C (io), C2 PL1D/PL2D/PL2D (io), D1 PL1B/PL3B/PL3B || L_GPLLC_FB (io), D2 PL2D/PL4D/PL4D (io), D3 PL1A/PL3A/PL3A || L_GPLLT_FB (io), E1 PL3A/PL6A/PL6A || PCLKT5_0 (io), E2 PL2A/PL4A/PL4A || L_GPLLT_IN (io), E3 PL2B/PL4B/PL4B || L_GPLLC_IN (io), E4 VCCIO5/VCCIO5/VCCIO5 (power), F1 PL4B/PL7B/PL8B (io), F2 PL3B/PL6B/PL6B || PCLKC5_0 (io), F3 PL4A/PL7A/PL8A (io), F4 PL3C/PL6C/PL6C (io), F5 PL5C/PL8C/PL9C (io), G2 PL5A/PL8A/PL9A (io), G3 PL5B/PL8B/PL9B (io), G4 PL4D/PL7D/PL7D (io), G5 PL4C/PL7C/PL7C (io), G6 PL3D/PL6D/PL6D (io), H6 PL5D/PL8D/PL9D (io)
part G pins: A1 VCC/VCC/VCC (power), A2 NC/NC/NC, A16 VCC/VCC/VCC (power), B2 GND/GND/GND (power), B15 GND/GND/GND (power), C3 GND/GND/GND (power), C14 GND/GND/GND (power), D4 GND/GND/GND (power), D13 GND/GND/GND (power), E5 GND/GND/GND (power), E12 GND/GND/GND (power), F6 GND/GND/GND (power), F11 GND/GND/GND (power), G7 VCC/VCC/VCC (power), G10 VCC/VCC/VCC (power), H8 GND/GND/GND (power), H9 GND/GND/GND (power), J8 GND/GND/GND (power), J9 GND/GND/GND (power), K7 VCC/VCC/VCC (power), K10 VCC/VCC/VCC (power), L6 GND/GND/GND (power), L11 GND/GND/GND (power), M5 GND/GND/GND (power), M12 GND/GND/GND (power), N4 GND/GND/GND (power), N13 GND/GND/GND (power), P3 GND/GND/GND (power), P14 GND/GND/GND (power), R2 GND/GND/GND (power), R15 GND/GND/GND (power), T1 VCC/VCC/VCC (power), T16 VCC/VCC/VCC (power)
part A text: BANK0; * = TRUE LVDS Output; 1K-2K/4K/7K || 2nd_Fn.
part B text: BANK1; DQ0; DQ1; ** = 2nd_Fn. applicable for 4K and 7K devices only.; 1K-2K/4K/7K || 2nd_Fn.
part C text: BANK2; 1K-2K/4K/7K || 2nd_Fn.
part D text: BANK3; 1K-2K/4K/7K || 2nd_Fn.
part E text: BANK4; 1K-2K/4K/7K || 2nd_Fn.
part F text: BANK5; 1K-2K/4K/7K || 2nd_Fn.
part G text: 1K-2K/4K/7K

## LED_0603_Green
designator D?, comment Green
LED SUPER GREEN CLEAR 0603 SMD; Manufacturer: LITE-On INC; Manufacturer Part Number: LTST-C190KGKT; Class: Discrete; Digikey P/N: 160-1435-1-ND
footprint led_0603
pins: 1 ANODE, 2 CATHODE

## LED_0603_Red
designator D?, comment Red
LED SUPER RED CLEAR 0603 SMD; Manufacturer Part Number: LTST-C190KRKT; Manufacturer: LITE-On INC; Class: Discrete; Digikey P/N: 160-1436-2-ND
footprint led_0603
pins: 1 ANODE, 2 CATHODE

## NCP1117
designator U?
IC Reg LDO 3.3V SOT-223; Manufacturer: On Semi; Manufacturer Part Number: NCP1117ST33T3G; Digikey P/N: NCP1117ST33T3GOSDKR-ND; Class: IC
footprint sot223_4p
pins: 1 GND (power), 2 OUT (power), 3 IN (power), 4 TAB (power)

## PIN AREA_0
designator J?, comment Proto Type Area, Holes on 0.1 inch Centers
footprint hdr_th_4x15_100
pins: 1 Proto Type Area

## Proto Area
designator J??, comment Proto Type Area, Holes on 0.1 inch Centers
pins: 1 Proto Type Area

## RES_10K_1W16_0402_5P
designator R?, comment 10k
RES 10K OHM 1/16W 5% 0402; TC2: 0; MFG: Stackpole Electronics Inc; MFG P/N: RMCF0402JT10K0; MAX_TEMP: RTMAX; DIST: FLAT; Total Area(sq-mm): 0.5; Unit Price (USD): 0.02; TC1: 0; Wattage: 1/16W; Width(mm): 0.5; Length(mm): 1
footprint R0402
pins: 1, 2

## skt_miniusb_b_ra
designator J?
CONN MINI USB RCPT RA TYPE B SMD; Manufacturer Part Number: 5075BMR-05-SM-CR; Manufacturer: Neltron; Class: IO
footprint skt_miniusb_b_ra
pins: 1 VCC (power), 2 D- (io), 3 D+ (io), 4 ID (power), 5 GND (power)

## SPI_FLASH_32Mb_SOIC8
designator U?, comment N25Q032A13ESC40F
IC FLASH 32MBIT 108MHZ SOIC8; Unit Price (USD): 1.1275; Total Area(sq-mm): 20; MFG: Micron; Cost Ea/1k: 0.74321; Length(mm): 5; Width(mm): 4; Digikey P/N: N25Q032A13ESC40F-ND; MFG P/N: N25Q032A13ESC40F
pins: 1 ~{CS}, 2 SDO, 3 ~{WP}, 4 GND, 5 SDI, 6 SCK, 7 ~{HOLD}, 8 VCC

## SW DIP-8_0
designator SW?
pins: 1 A1, 2 A2, 3 A3, 4 A4, 13 B4, 14 B3, 15 B2, 16 B1

## SW PUSHBUTTON-SPST/SM
designator SW?
pins: 1, 2

## TP_S_40_63
designator TP?, comment tp_s_40_63
Square test point, 40mil inner diameter, 63mil outer diameter; Class: IO
footprint tp_s_40_63
pins: 1 TP